# EAGLE library part TPS562219A (library mylibrary)
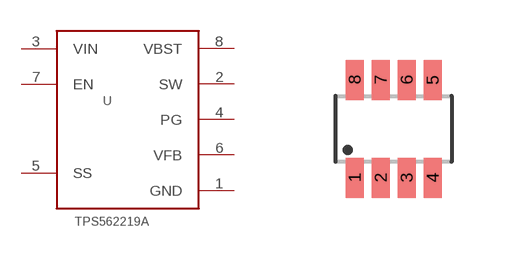
[diagram p2: symbol with the pads of SOT23-8L; footprint SOT23-8L]

Designator prefix -

## TPS562219A  [SOT23-8L]
1  GND
2  SW
3  VIN
4  PG
5  SS
6  VFB
7  EN
8  VBST

## Footprint SOT23-8L (pad centres in mm)
SC70/SOT23-8 Source: http://datasheets.maxim-ic.com/en/ds/MAX4335-MAX4338.pdf
smd 0.45 x 1: 1 -0.975,-1.225; 2 -0.325,-1.225; 3 0.325,-1.225; 4 0.975,-1.225; 5 0.975,1.225; 6 0.325,1.225; 7 -0.325,1.225; 8 -0.975,1.225